# Altium footprint library TP.PcbLib: 3 footprints
Each footprint in its own frame and in the unit in brackets; x right, y up, seen from the top. Pads: shape width x height; smd on the part's side, far side on the other; paste and mask are expansions set on the pad; w line width, h text height; cw(c..) or ccw(c..) is an arc to the next point about the centre after c.
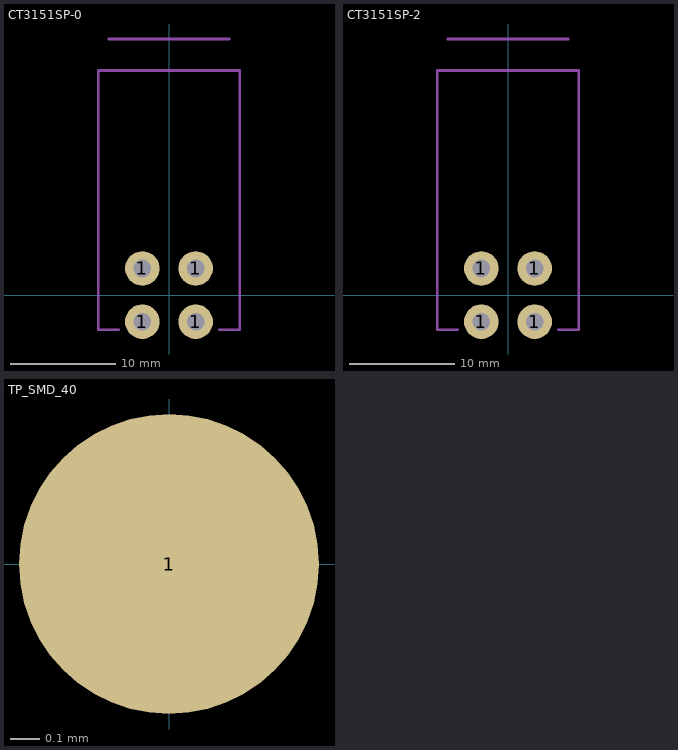
[diagram p0: the footprints below, top view; thin cyan lines are the x and y axes]

## CT3151SP-0 [mil]
height 757.87
pads (4):
  round 130 hole 66: 1(-100,-100) 1(-100,100) 1(100,-100) 1(100,100)
Courtyard Top:
  lines w10: -226.38,962.2 226.38,962.2 ; -190,-130 -265.75,-130 -265.75,844.09 265.75,844.09 265.75,-130 190,-130
3D body: height 565.75, standoff -125.98, extent -265.74,-128.34 265.75,962.21

## CT3151SP-2 [mil]
height 757.87
pads (4):
  round 130 hole 66: 1(-100,-100) 1(-100,100) 1(100,-100) 1(100,100)
Courtyard Top:
  lines w10: -226.38,962.2 226.38,962.2 ; -190,-130 -265.75,-130 -265.75,844.09 265.75,844.09 265.75,-130 190,-130
3D body: height 565.75, standoff -125.98, extent -265.74,-128.34 265.75,962.21

## TP_SMD_40 [mil]
pads (1):
  round 40 smd: 1(0,0)
Test Points Top:
  text ".Designator" at -70,30 h40